# EAGLE library part 2624-1504 (library con-wago_2624)
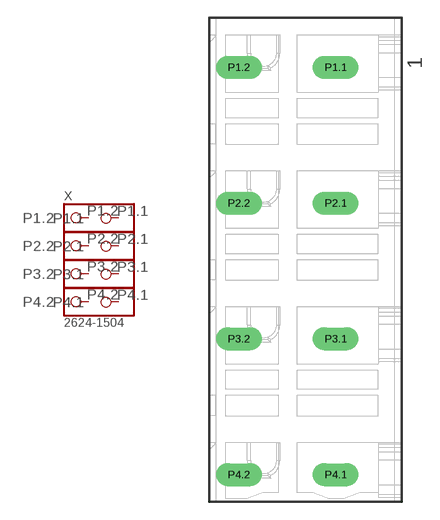
[diagram p21: symbol with the pads of P-2624-1504; footprint P-2624-1504]

Designator prefix X

## 2624-1504  [P-2624-1504]
P1.1  P1.1
P1.2  P1.2
P2.1  P2.1
P2.2  P2.2
P3.1  P3.1
P3.2  P3.2
P4.1  P4.1
P4.2  P4.2

## Footprint P-2624-1504 (pad centres in mm)
drill 1.3 pad 1.93 long: P1.1 0,-2.7; P1.2 -8.2,-2.7; P2.1 0,-14.2; P2.2 -8.2,-14.2; P3.1 0,-25.7; P3.2 -8.2,-25.7; P4.1 0,-37.2; P4.2 -8.2,-37.2